# Altium integrated library RS_Components.IntLib: 13 symbols
Pins are listed as number, name and electrical type; pins without a type are passive.

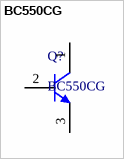
[diagram p0: symbol BC550CG]

## BC550CG
designator Q?
Low Noise Transistor, NPN Silicon, 3-Pin TO-92, Pb-Free, Bulk Box; Manufacturer: On Semiconductor; IC Continuous (A): 0.1; Polarity: NPN; ComponentLink1Description: Manufacturer URL; ComponentLink2Description: Datasheet; DatasheetVersion: Rev. 2; Mounting Technology: Through Hole; ComponentLink3URL: http://www.onsemi.cn/pub_link/Collateral/2N6426-D.PDF; ComponentLink3Description: Package Specification; ComponentLink1URL: http://www.onsemi.com/; Packing: Bulk Box; PackageVersion: Rev. AM; PartNumber: BC550CG; PackageReference: TO-92-3-29-11_AM_SL; PackageDescription: 3-Pin Transistor Outline, Body 4.825 x 3.685 mm, Pitch 1.27 mm; ComponentLink2URL: http://www.onsemi.com/pub_link/Collateral/BC550C-D.PDF; RoHS: TRUE
footprint ONSC-TO-92-3-29-11
pins: 1 C, 2 B, 3 E


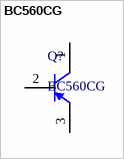
[diagram p1: symbol BC560CG]

## BC560CG
designator Q?
Low Noise Transistor, PNP Silicon, 3-Pin TO-92, Pb-Free, Bulk Box; Manufacturer: On Semiconductor; IC Continuous (A): -0.1; Polarity: PNP; ComponentLink1Description: Manufacturer URL; ComponentLink2Description: Datasheet; DatasheetVersion: Rev. 4; Mounting Technology: Through Hole; ComponentLink3URL: http://www.onsemi.cn/pub_link/Collateral/2N6426-D.PDF; ComponentLink3Description: Package Specification; ComponentLink1URL: http://www.onsemi.com/; ComponentLink2URL: http://www.onsemi.com/pub_link/Collateral/BC560C-D.PDF; Packing: Bulk Box; PartNumber: BC560CG; PackageReference: TO-92-3-29-11_AM_SL; PackageDescription: 3-Pin Transistor Outline, Body 4.825 x 3.685 mm, Pitch 1.27 mm; PackageVersion: Rev. AM; RoHS: TRUE
footprint ONSC-TO-92-3-29-11
pins: 1 C, 2 B, 3 E


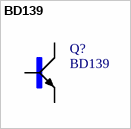
[diagram p2: symbol BD139]

## BD139
designator Q?
Transistor NPN BD139 CONTINENTAL DEVICE RoHS Ampere=1 TO126; MF: ON Semiconductor; Price: None; Package: TO-126-3 Continental Device; MP: BD139; Availability: Unavailable; SnapEDA_Link: https://www.snapeda.com/parts/BD139/ON%20Semiconductor/view-part/?ref=snap; Value: *
footprint TO126AV_BD139(Primary)
pins: B, C, E


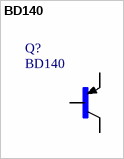
[diagram p3: symbol BD140]

## BD140
designator Q?
Transistor; Transistor Polarity: PNP; Collector Emitter Voltage, V_br_ceo: 80V; Power Dissipation, Pd: 12.5W; DC Coll...; MF: ON; Price: None; Package: TO-126 Multicomp; MP: BD140; Availability: Unavailable; SnapEDA_Link: https://www.snapeda.com/parts/BD140/ON%20Semiconductor/view-part/?ref=snap; Value: *
footprint TO126
pins: 1 E, 2 C, 3 B


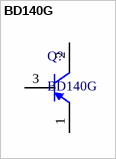
[diagram p4: symbol BD140G]

## BD140G
designator Q?
Plastic Medium-Power Silicon PNP Transistor, 3-Pin TO-225, Pb-Free, Bulk Box; Manufacturer: On Semiconductor; IC Continuous (A): 1.5; Polarity: PNP; ComponentLink1Description: Manufacturer URL; ComponentLink2Description: Datasheet; PartNumber: BD140G; ComponentLink3Description: Package Specification; ComponentLink3URL: http://www.onsemi.com/pub_link/Collateral/77-09.PDF; DatasheetVersion: Rev. 15; ComponentLink1URL: http://www.onsemi.com/; Packing: Bulk Box; PackageVersion: Rev. AC, 12/2013; Mounting Technology: Through Hole; PackageReference: TO-225-3-77-09; PackageDescription: 3-Pin Flange Mount, Vertical Straight Lead, Body 7.6 x 2.7 mm, Pitch 2.29 mm; ComponentLink2URL: http://www.onsemi.com/pub_link/Collateral/BD136-D.PDF; RoHS: TRUE
footprint ONSC-TO-225-3-77-09
pins: 1 E, 2 C, 3 B


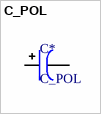
[diagram p5: symbol C_POL]

## C_POL
designator C*
footprint CE13x21_5
footprint CE30x42_10
footprint CE18x36_7.5
pins: 0, 1


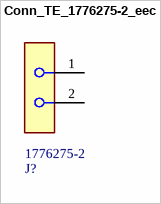
[diagram p6: symbol Conn_TE_1776275-2_eec]

## Conn_TE_1776275-2_eec
designator J?  Part Number: 1776275-2
CONN TERM BLOCK 2POS SIDE ENT 3.5MM; Manufacturer: TE; Voltage: 250V; Is Female: yes; helpURL: https://upverter.com/upn/revision/4e6edfab3561cdf2/; ComponentLink2Description: Datasheet; Temperature: -55°C to +105°C; Package: HDR02; Supplier 2: Mouser; Price: 0.260723926123; Supplier 1: Digi-Key; ComponentLink1URL: https://upverter.com/upn/revision/4e6edfab3561cdf2/; Supplier Part Number 2: 571-1776275-2; Supplier Part Number 1: A98036-ND; ComponentLink1Description: Upverter; ComponentLink2URL: http://www.te.com/commerce/DocumentDelivery/DDEController?Action=showdoc&DocId=Customer+Drawing%7F1776275%7FR%7Fpdf%7FEnglish%7FENG_CD_1776275_R_baseFilename.pdf%7F1776275-2; RoHS: TRUE; Mouser Part Number: 571-1776275-2; Temperature Range High: +105°C; Digikey Description: CONN TERM BLOCK 2POS SIDE ENT 3.5MM; Digikey Part Number: A98036-ND; Lead Free: yes; Temperature Range Low: -55°C
footprint TE_1776275-2_0
pins: 1, 2


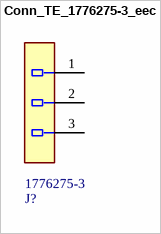
[diagram p7: symbol Conn_TE_1776275-3_eec]

## Conn_TE_1776275-3_eec
designator J?  Part Number: 1776275-3
CONN TERM BLOCK 3POS SIDE ENT 3.5MM; Manufacturer: TE; Voltage: 250V; helpURL: https://upverter.com/upn/revision/a0ef539887363a71/; ComponentLink2Description: Datasheet; Temperature: -55°C to +105°C; Package: HDR03; Supplier 2: Mouser; Price: 0.565609083036; Supplier 1: Digi-Key; ComponentLink1URL: https://upverter.com/upn/revision/a0ef539887363a71/; Supplier Part Number 2: 571-1776275-3; Supplier Part Number 1: A98037-ND; ComponentLink1Description: Upverter; ComponentLink2URL: http://www.te.com/usa-en/product-1776275-3.html#pdp-docs-features; RoHS: TRUE; Mouser Part Number: 571-1776275-3; Temperature Range High: +105°C; Digikey Description: CONN TERM BLOCK 3POS SIDE ENT 3.5MM; Digikey Part Number: A98037-ND; Temperature Range Low: -55°C; Lead Free: yes
footprint TE_1776275-3_0
pins: 1, 2, 3


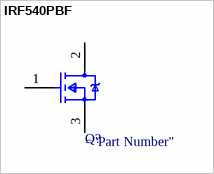
[diagram p8: symbol IRF540PBF]

## IRF540PBF
designator Q?  (value not drawn)
footprint Infineon_TO-220AB_0
pins: 1 G, 2 D, 3 S


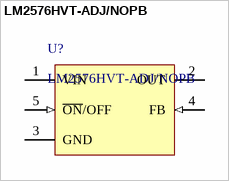
[diagram p9: symbol LM2576HVT-ADJ/NOPB]

## LM2576HVT-ADJ/NOPB
designator U?
SIMPLE SWITCHER® 3A Step-Down Voltage Regulator, 5-pin TO-220, Pb-Free; Manufacturer: Texas Instruments; PackageTopMarking: NSUZXYTTE#*LM2576HVT*-ADJ P+; PowerWise: N; ComponentLink1Description: Datasheet URL; PinCount: 5; ComponentLink1URL: http://www.ti.com/general/docs/lit/getliterature.tsp?genericPartNumber=LM2576HV&fileType=pdf; Code_JEDEC: TO-220-AB; PackageDescription: TO-220, Molded, 5 Lead, Straight; CompType: Switcher; RoHS: Y; PackageReference: KC0005A
footprint KC0005A
pins: 1 VIN (power), 2 OUT (power), 3 GND (power), 4 FB (in), 5 ~{ON}/OFF (in)


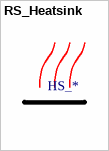
[diagram p10: symbol RS_Heatsink]

## RS_Heatsink
designator HS_*
footprint RS_heatsink_HS135A


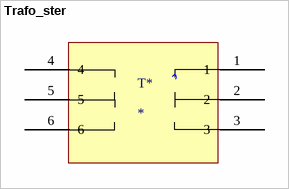
[diagram p11: symbol Trafo_ster]

## Trafo_ster
designator T*
footprint Trafo_ster
pins: 1, 2, 3, 4, 5, 6


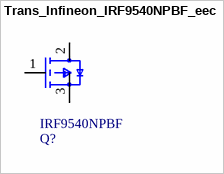
[diagram p12: symbol Trans_Infineon_IRF9540NPBF_eec]

## Trans_Infineon_IRF9540NPBF_eec
designator Q?  Part Number: IRF9540NPBF
TRANS MOSFET P-CH 100V 23A TO-220AB; Manufacturer: Infineon; helpURL: https://upverter.com/upn/revision/7f29c573dd9ab030/; ComponentLink2Description: Datasheet; Temperature: -55°C to +175°C; Package: TO-220AB; Supplier 2: Mouser; Price: 0.748028352746; Supplier 1: Digi-Key; ComponentLink1URL: https://upverter.com/upn/revision/7f29c573dd9ab030/; Supplier Part Number 2: 942-IRF9540NPBF; Supplier Part Number 1: IRF9540NPBF-ND; ComponentLink1Description: Upverter; ComponentLink2URL: http://www.irf.com/product-info/datasheets/data/irf9540.pdf; RoHS: TRUE; Mouser Part Number: 942-IRF9540NPBF; Temperature Range High: +175°C; Digikey Description: TRANS MOSFET P-CH 100V 23A TO-220AB; Digikey Part Number: IRF9540NPBF-ND; Lead Free: Yes; Mfg Package Ident: TO-220AB; Temperature Range Low: -55°C
footprint Infineon_TO-220AB_0
pins: 1 GATE, 2 DRAIN, 3 SOURCE